# Altium schematic symbol library Schlib1.SchLib: 4 symbols
Pins are listed as number, name and electrical type; pins without a type are passive.

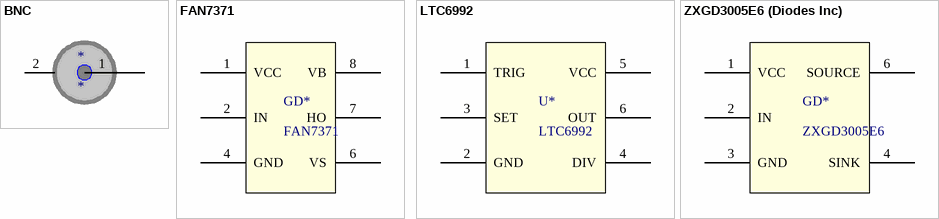
[diagram p0: symbols BNC to ZXGD3005E6 (Diodes Inc)]

## BNC
designator *
footprint BNC (BNC RS Pro female connector)
pins: 1, 2 gnd

## FAN7371
designator GD*
footprint FAN7371 (SOP, 8-Leads, Body 4.90x3.90mm, Pitch 1.27mm, IPC Medium Density)
pins: 1 VCC, 2 IN, 4 GND, 6 VS, 7 HO, 8 VB

## LTC6992
designator U*
LTC6992 PWM generator
footprint LTC6992 (TSOT23-N medium density)
pins: 1 TRIG, 2 GND, 3 SET, 4 DIV, 5 VCC, 6 OUT

## ZXGD3005E6 (Diodes Inc)
designator GD*, comment ZXGD3005E6
footprint ZXGD3005E6 (Diodes Inc)
pins: 1 VCC, 2 IN, 3 GND, 4 SINK, 6 SOURCE